# Altium integrated library SON65P300X315X90-9N.IntLib: 1 symbol
Pins are listed as number, name and electrical type; pins without a type are passive.

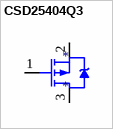
[diagram p0: symbol CSD25404Q3]

## CSD25404Q3
designator *
footprint *SON65P300X315X90-9N
pins: 1 G, 2 S, 3 D